# EAGLE library part EP4RKU+ (library My_Library_RADAR)
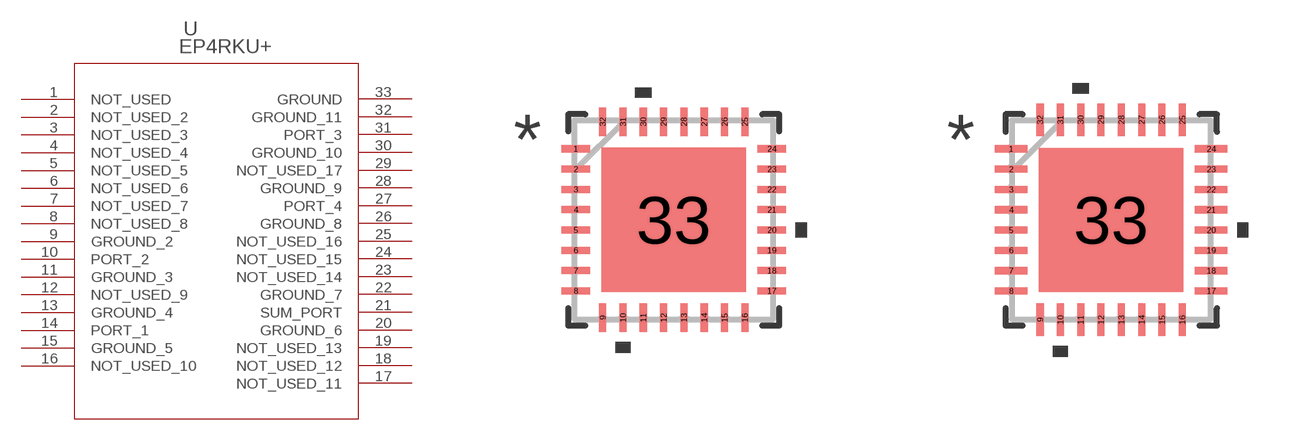
[diagram p1: symbol with the pads of DG1677-2_MNC; footprints DG1677-2_MNC, DG1677-2_MNC-M]

Designator prefix U

## EP4RKU+ (COPYRIGHT: Copyright (C) 2024 Ultra Librarian. All rights reserved.; MANUFACTURER_PART_NUMBER: EP4RKU+; MFR_NAME: Mini Circuits)  [DG1677-2_MNC]
1  NOT_USED  nc
2  NOT_USED_2  nc
3  NOT_USED_3  nc
4  NOT_USED_4  nc
5  NOT_USED_5  nc
6  NOT_USED_6  nc
7  NOT_USED_7  nc
8  NOT_USED_8  nc
9  GROUND_2  pas
10  PORT_2
11  GROUND_3  pas
12  NOT_USED_9  nc
13  GROUND_4  pas
14  PORT_1
15  GROUND_5  pas
16  NOT_USED_10  nc
17  NOT_USED_11  nc
18  NOT_USED_12  nc
19  NOT_USED_13  nc
20  GROUND_6  pas
21  SUM_PORT
22  GROUND_7  pas
23  NOT_USED_14  nc
24  NOT_USED_15  nc
25  NOT_USED_16  nc
26  GROUND_8  pas
27  PORT_4
28  GROUND_9  pas
29  NOT_USED_17  nc
30  GROUND_10  pas
31  PORT_3
32  GROUND_11  pas
33  GROUND  pas

## EP4RKU+DG1677-2_MNC-M (COPYRIGHT: Copyright (C) 2024 Ultra Librarian. All rights reserved.; MANUFACTURER_PART_NUMBER: EP4RKU+; MFR_NAME: Mini Circuits)  [DG1677-2_MNC-M]
Pads as for DG1677-2_MNC

## EP4RKU+DG1677-2_MNC-L (COPYRIGHT: Copyright (C) 2024 Ultra Librarian. All rights reserved.; MANUFACTURER_PART_NUMBER: EP4RKU+; MFR_NAME: Mini Circuits)  [DG1677-2_MNC-L]
Pads as for DG1677-2_MNC

## Footprint DG1677-2_MNC (pad centres in mm)
smd 0.711 x 0.178: 1 -2.451,1.778; 2 -2.451,1.27; 3 -2.451,0.762; 4 -2.451,0.254; 5 -2.451,-0.254; 6 -2.451,-0.762; 7 -2.451,-1.27; 8 -2.451,-1.778; 17 2.451,-1.778; 18 2.451,-1.27; 19 2.451,-0.762; 20 2.451,-0.254; 21 2.451,0.254; 22 2.451,0.762; 23 2.451,1.27; 24 2.451,1.778
smd 0.178 x 0.711: 9 -1.778,-2.451; 10 -1.27,-2.451; 11 -0.762,-2.451; 12 -0.254,-2.451; 13 0.254,-2.451; 14 0.762,-2.451; 15 1.27,-2.451; 16 1.778,-2.451; 25 1.778,2.451; 26 1.27,2.451; 27 0.762,2.451; 28 0.254,2.451; 29 -0.254,2.451; 30 -0.762,2.451; 31 -1.27,2.451; 32 -1.778,2.451
smd 3.607 x 3.607: 33 0,0

## Footprint DG1677-2_MNC-M (pad centres in mm)
smd 0.813 x 0.178: 1 -2.502,1.778; 2 -2.502,1.27; 3 -2.502,0.762; 4 -2.502,0.254; 5 -2.502,-0.254; 6 -2.502,-0.762; 7 -2.502,-1.27; 8 -2.502,-1.778; 17 2.502,-1.778; 18 2.502,-1.27; 19 2.502,-0.762; 20 2.502,-0.254; 21 2.502,0.254; 22 2.502,0.762; 23 2.502,1.27; 24 2.502,1.778
smd 0.178 x 0.813: 9 -1.778,-2.502; 10 -1.27,-2.502; 11 -0.762,-2.502; 12 -0.254,-2.502; 13 0.254,-2.502; 14 0.762,-2.502; 15 1.27,-2.502; 16 1.778,-2.502; 25 1.778,2.502; 26 1.27,2.502; 27 0.762,2.502; 28 0.254,2.502; 29 -0.254,2.502; 30 -0.762,2.502; 31 -1.27,2.502; 32 -1.778,2.502
smd 3.607 x 3.607: 33 0,0

## Footprint DG1677-2_MNC-L (pad centres in mm)
smd 0.61 x 0.178: 1 -2.4,1.778; 2 -2.4,1.27; 3 -2.4,0.762; 4 -2.4,0.254; 5 -2.4,-0.254; 6 -2.4,-0.762; 7 -2.4,-1.27; 8 -2.4,-1.778; 17 2.4,-1.778; 18 2.4,-1.27; 19 2.4,-0.762; 20 2.4,-0.254; 21 2.4,0.254; 22 2.4,0.762; 23 2.4,1.27; 24 2.4,1.778
smd 0.178 x 0.61: 9 -1.778,-2.4; 10 -1.27,-2.4; 11 -0.762,-2.4; 12 -0.254,-2.4; 13 0.254,-2.4; 14 0.762,-2.4; 15 1.27,-2.4; 16 1.778,-2.4; 25 1.778,2.4; 26 1.27,2.4; 27 0.762,2.4; 28 0.254,2.4; 29 -0.254,2.4; 30 -0.762,2.4; 31 -1.27,2.4; 32 -1.778,2.4
smd 3.607 x 3.607: 33 0,0